# Altium schematic symbol library Resistor_0805.SchLib: 258 symbols (part 3 of 6)
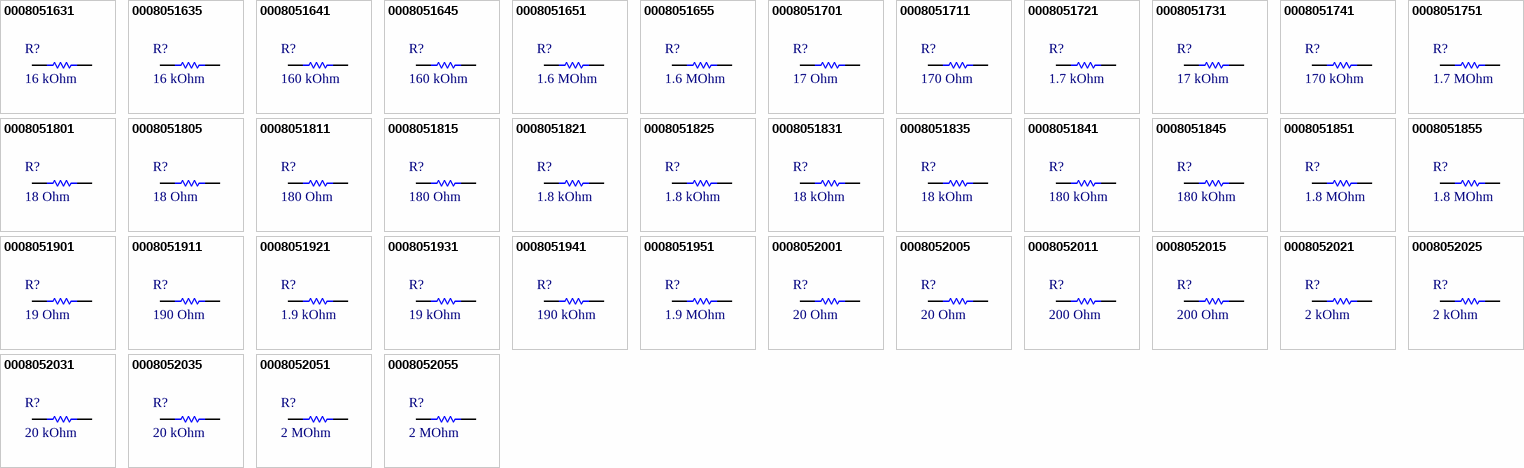
[diagram p8: symbols 0008051631 to 0008052055]

## 0008051721
designator R?, comment 1.7 kOhm
RES, size 0805, 1.7 kOhm, 1/8 W, 1%; Manufacturer: Vishay Dale; Manufacturer Part Number: CRCW08051K74FKEA; Rated Power: 1/8 W; Tolerance: +/-1%; Resistance: 1.7 kOhm; Supplier 1 URL: https://www.mouser.vn/ProductDetail/Vishay-Dale/CRCW08051R74FKEA?qs=VZN8LE6el69bxHRyB8AcJA%3D%3D; Supplier 2 URL: https://www.digikey.com/en/products/detail/vishay-dale/CRCW08051K74FKEA/1175662; Supplier 3 URL: N/A; Value: 1.7 kOhm; Packaging: Tape and Reel; Supplier 1: Mouser; Supplier 1 Part Number: 71-CRCW08051R74FKEA; Supplier 2: Digi-Key; Supplier 2 Part Number: 541-1.74KCTR-ND; Supplier 3: thegioiic; Supplier 3 Part Number: OEM; ComponentLink1Description: Datasheet; ComponentLink1URL: https://www.vishay.com/docs/20035/dcrcwe3.pdf; Mount: SMD/SMT; Operating Temperature Max: + 85 C; Operating Temperature Min: - 40 C; Package / Case: 0805; LCSC Part #: N/A
footprint RES_0805 (Chip Resistor, 2-Leads, Body 2.05x1.25mm, IPC Medium Density)
simulation model R_Resistor_Default (Model Description)
signal-integrity model Resistor Model
pins: 1, 2

## 0008051731
designator R?, comment 17 kOhm
RES, size 0805, 17 kOhm, 1/8 W, 1%; Manufacturer: Vishay Dale; Manufacturer Part Number: CRCW080516K9FKEA; Rated Power: 1/8 W; Tolerance: +/-1%; Resistance: 17 kOhm; Supplier 1 URL: https://www.mouser.vn/ProductDetail/Vishay-Dale/CRCW080516R9FKEA?qs=2mNt4BZ3oPy6ledn75dEfw%3D%3D; Supplier 2 URL: https://www.digikey.com/en/products/detail/vishay-dale/CRCW080516K9FKEA/1175775; Supplier 3 URL: https://www.thegioiic.com/dien-tro-16-9-kohm-0805-1; Value: 17 kOhm; Packaging: Tape and Reel; Supplier 1: Mouser; Supplier 1 Part Number: 71-CRCW080516R9FKEA; Supplier 2: Digi-Key; Supplier 2 Part Number: 541-16.9KCTR-ND; Supplier 3: thegioiic; Supplier 3 Part Number: OEM; ComponentLink1Description: Datasheet; ComponentLink1URL: https://www.vishay.com/docs/20035/dcrcwe3.pdf; Mount: SMD/SMT; Operating Temperature Max: + 85 C; Operating Temperature Min: - 40 C; Package / Case: 0805; LCSC Part #: N/A
footprint RES_0805 (Chip Resistor, 2-Leads, Body 2.05x1.25mm, IPC Medium Density)
simulation model R_Resistor_Default (Model Description)
signal-integrity model Resistor Model
pins: 1, 2

## 0008051741
designator R?, comment 170 kOhm
RES, size 0805, 170 kOhm, 1/8 W, 1%; Manufacturer: Vishay Dale; Manufacturer Part Number: CRCW0805169KFKEA; Rated Power: 1/8 W; Tolerance: +/-1%; Resistance: 170 kOhm; Supplier 1 URL: https://www.mouser.vn/ProductDetail/Vishay-Dale/CRCW0805169KFKEA?qs=2mNt4BZ3oPxAzoQkYaNjxQ%3D%3D; Supplier 2 URL: https://www.digikey.com/en/products/detail/vishay-dale/CRCW0805169KFKEA/1175889; Supplier 3 URL: https://www.vishay.com/docs/20035/dcrcwe3.pdf; Value: 170 kOhm; Packaging: Tape and Reel; Supplier 1: Mouser; Supplier 1 Part Number: 71-CRCW0805169KFKEA; Supplier 2: Digi-Key; Supplier 2 Part Number: 541-169KCTR-ND; Supplier 3: thegioiic; Supplier 3 Part Number: OEM; ComponentLink1Description: Datasheet; ComponentLink1URL: https://www.vishay.com/docs/20035/dcrcwe3.pdf; Mount: SMD/SMT; Operating Temperature Max: + 85 C; Operating Temperature Min: - 40 C; Package / Case: 0805; LCSC Part #: N/A
footprint RES_0805 (Chip Resistor, 2-Leads, Body 2.05x1.25mm, IPC Medium Density)
simulation model R_Resistor_Default (Model Description)
signal-integrity model Resistor Model
pins: 1, 2

## 0008051751
designator R?, comment 1.7 MOhm
RES, size 0805, 1.7 MOhm, 1/8 W, 1%; Manufacturer: Vishay Dale; Manufacturer Part Number: CRCW08051M69FKEA; Rated Power: 1/8 W; Tolerance: +/-1%; Resistance: 1.7 MOhm; Supplier 1 URL: https://www.mouser.vn/ProductDetail/Vishay-Dale/CRCW08051M69FKEA?qs=uQdQW2oKfUWB0BOy%2FF%2FQ%252Bw%3D%3D; Supplier 2 URL: https://www.digikey.com/en/products/detail/vishay-dale/CRCW08051M69FKEA/1176040; Supplier 3 URL: N/A; Value: 1.7 MOhm; Packaging: Tape and Reel; Supplier 1: Mouser; Supplier 1 Part Number: 71-CRCW08051M69FKEA; Supplier 2: Digi-Key; Supplier 2 Part Number: 541-1.69MCTR-ND; Supplier 3: thegioiic; Supplier 3 Part Number: OEM; ComponentLink1Description: Datasheet; ComponentLink1URL: https://www.vishay.com/docs/20035/dcrcwe3.pdf; Mount: SMD/SMT; Operating Temperature Max: + 85 C; Operating Temperature Min: - 40 C; Package / Case: 0805; LCSC Part #: N/A
footprint RES_0805 (Chip Resistor, 2-Leads, Body 2.05x1.25mm, IPC Medium Density)
simulation model R_Resistor_Default (Model Description)
signal-integrity model Resistor Model
pins: 1, 2

## 0008051801
designator R?, comment 18 Ohm
RES, size 0805, 18 Ohm, 1/8 W, 1%; Manufacturer: Vishay Dale; Manufacturer Part Number: CRCW080518R0FKEAC; Rated Power: 1/8 W; Tolerance: +/-1%; Resistance: 18 Ohm; Supplier 1 URL: https://www.mouser.vn/ProductDetail/Vishay-Dale/CRCW080518R0FKEA?qs=DZvKvnD5UYXeNlxVPLgBIg%3D%3D; Supplier 2 URL: https://www.digikey.com/en/products/detail/vishay-dale/CRCW080518R0FKEAC/7922560; Supplier 3 URL: N/A; Value: 18 Ohm; Packaging: Tape and Reel; Supplier 1: Mouser; Supplier 1 Part Number: 71-CRCW080518R0FKEA; Supplier 2: Digi-Key; Supplier 2 Part Number: 541-CRCW080518R0FKEACTR-ND; Supplier 3: thegioiic; Supplier 3 Part Number: OEM; ComponentLink1Description: Datasheet; ComponentLink1URL: https://www.vishay.com/docs/28773/crcwce3.pdf; Mount: SMD/SMT; Operating Temperature Max: + 85 C; Operating Temperature Min: - 40 C; Package / Case: 0805; LCSC Part #: N/A
footprint RES_0805 (Chip Resistor, 2-Leads, Body 2.05x1.25mm, IPC Medium Density)
simulation model R_Resistor_Default (Model Description)
signal-integrity model Resistor Model
pins: 1, 2

## 0008051805
designator R?, comment 18 Ohm
RES, size 0805, 18 Ohm, 1/8 W, 5%; Manufacturer: Vishay Dale; Manufacturer Part Number: CRCW080518R0JNEA; Rated Power: 1/8 W; Tolerance: +/-5%; Resistance: 18 Ohm; Supplier 1 URL: https://www.mouser.vn/ProductDetail/Vishay-Dale/CRCW080518R0JNEA?qs=DZvKvnD5UYVzWW6FXLIdlg%3D%3D; Supplier 2 URL: https://www.digikey.com/en/products/detail/vishay-dale/CRCW080518R0JNEA/1175156; Supplier 3 URL: https://www.thegioiic.com/dien-tro-18-ohm-0805-5-; Value: 18 Ohm; Packaging: Tape and Reel; Supplier 1: Mouser; Supplier 1 Part Number: 71-CRCW080518R0JNEA; Supplier 2: Digi-Key; Supplier 2 Part Number: 541-18ATR-ND; Supplier 3: thegioiic; Supplier 3 Part Number: OEM; ComponentLink1Description: Datasheet; ComponentLink1URL: https://www.vishay.com/docs/20035/dcrcwe3.pdf; Mount: SMD/SMT; Operating Temperature Max: + 85 C; Operating Temperature Min: - 40 C; Package / Case: 0805; LCSC Part #: N/A
footprint RES_0805 (Chip Resistor, 2-Leads, Body 2.05x1.25mm, IPC Medium Density)
simulation model R_Resistor_Default (Model Description)
signal-integrity model Resistor Model
pins: 1, 2

## 0008051811
designator R?, comment 180 Ohm
RES, size 0805, 180 Ohm, 1/8 W, 1%; Manufacturer: Vishay Dale; Manufacturer Part Number: CRCW0805180RFKEA; Rated Power: 1/8 W; Tolerance: +/-1%; Resistance: 180 Ohm; Supplier 1 URL: https://www.mouser.vn/ProductDetail/Vishay-Dale/CRCW0805180RFKEA?qs=2mNt4BZ3oPx3JSoDddPwBg%3D%3D; Supplier 2 URL: https://www.digikey.com/en/products/detail/vishay-dale/CRCW0805180RFKEA/1175550; Supplier 3 URL: https://www.thegioiic.com/dien-tro-180-ohm-0805-1; Value: 180 Ohm; Packaging: Tape and Reel; Supplier 1: Mouser; Supplier 1 Part Number: 71-CRCW0805180RFKEA; Supplier 2: Digi-Key; Supplier 2 Part Number: 541-180CTR-ND; Supplier 3: thegioiic; Supplier 3 Part Number: OEM; ComponentLink1Description: Datasheet; ComponentLink1URL: https://www.vishay.com/docs/20035/dcrcwe3.pdf; Mount: SMD/SMT; Operating Temperature Max: + 85 C; Operating Temperature Min: - 40 C; Package / Case: 0805; LCSC Part #: N/A
footprint RES_0805 (Chip Resistor, 2-Leads, Body 2.05x1.25mm, IPC Medium Density)
simulation model R_Resistor_Default (Model Description)
signal-integrity model Resistor Model
pins: 1, 2

## 0008051815
designator R?, comment 180 Ohm
RES, size 0805, 180 Ohm, 1/8 W, 5%; Manufacturer: Vishay Dale; Manufacturer Part Number: CRCW0805180RJNEA; Rated Power: 1/8 W; Tolerance: +/-5%; Resistance: 180 Ohm; Supplier 1 URL: https://www.mouser.vn/ProductDetail/Vishay-Dale/CRCW0805180RJNEA?qs=2mNt4BZ3oPw5LDq56YqQBw%3D%3D; Supplier 2 URL: https://www.digikey.com/en/products/detail/vishay-dale/CRCW0805180RJNEA/1175180; Supplier 3 URL: https://www.thegioiic.com/dien-tro-180-ohm-0805-5; Value: 180 Ohm; Packaging: Tape and Reel; Supplier 1: Mouser; Supplier 1 Part Number: 71-CRCW0805180RJNEA; Supplier 2: Digi-Key; Supplier 2 Part Number: 541-180ATR-ND; Supplier 3: thegioiic; Supplier 3 Part Number: OEM; ComponentLink1Description: Datasheet; ComponentLink1URL: https://www.vishay.com/docs/20035/dcrcwe3.pdf; Mount: SMD/SMT; Operating Temperature Max: + 85 C; Operating Temperature Min: - 40 C; Package / Case: 0805; LCSC Part #: N/A
footprint RES_0805 (Chip Resistor, 2-Leads, Body 2.05x1.25mm, IPC Medium Density)
simulation model R_Resistor_Default (Model Description)
signal-integrity model Resistor Model
pins: 1, 2

## 0008051821
designator R?, comment 1.8 kOhm
RES, size 0805, 1.8 kOhm, 1/8 W, 1%; Manufacturer: Vishay Dale; Manufacturer Part Number: CRCW08051K80FKEAC; Rated Power: 1/8 W; Tolerance: +/-1%; Resistance: 1.8 kOhm; Supplier 1 URL: https://www.mouser.vn/ProductDetail/Vishay-Dale/CRCW08051K80FKTA?qs=%2FCr5RXwmPBPYh0ghdoWn4A%3D%3D; Supplier 2 URL: https://www.digikey.com/en/products/detail/vishay-dale/CRCW08051K80FKEAC/7922423; Supplier 3 URL: N/A; Value: 1.8 kOhm; Packaging: Tape and Reel; Supplier 1: Mouser; Supplier 1 Part Number: 71-CRCW0805-1.8K; Supplier 2: Digi-Key; Supplier 2 Part Number: 541-CRCW08051K80FKEACTR-ND; Supplier 3: thegioiic; Supplier 3 Part Number: OEM; ComponentLink1Description: Datasheet; ComponentLink1URL: https://www.vishay.com/docs/28773/crcwce3.pdf; Mount: SMD/SMT; Operating Temperature Max: + 85 C; Operating Temperature Min: - 40 C; Package / Case: 0805; LCSC Part #: N/A
footprint RES_0805 (Chip Resistor, 2-Leads, Body 2.05x1.25mm, IPC Medium Density)
simulation model R_Resistor_Default (Model Description)
signal-integrity model Resistor Model
pins: 1, 2

## 0008051825
designator R?, comment 1.8 kOhm
RES, size 0805, 1.8 kOhm, 1/8 W, 5%; Manufacturer: Vishay Dale; Manufacturer Part Number: CRCW08051K80JNEA; Rated Power: 1/8 W; Tolerance: +/-5%; Resistance: 1.8 kOhm; Supplier 1 URL: https://www.mouser.vn/ProductDetail/Vishay-Dale/CRCW08051K80JNEA?qs=1CkV0QOCgMoziGcs0GIg9A%3D%3D; Supplier 2 URL: https://www.digikey.com/en/products/detail/vishay-dale/CRCW08051K80JNEA/1175204; Supplier 3 URL: https://www.thegioiic.com/dien-tro-1-8-kohm-0805-5; Value: 1.8 kOhm; Packaging: Tape and Reel; Supplier 1: Mouser; Supplier 1 Part Number: 71-CRCW08051K80JNEA; Supplier 2: Digi-Key; Supplier 2 Part Number: 541-1.8KATR-ND; Supplier 3: thegioiic; Supplier 3 Part Number: OEM; ComponentLink1Description: Datasheet; ComponentLink1URL: https://www.vishay.com/docs/20035/dcrcwe3.pdf; Mount: SMD/SMT; Operating Temperature Max: + 85 C; Operating Temperature Min: - 40 C; Package / Case: 0805; LCSC Part #: N/A
footprint RES_0805 (Chip Resistor, 2-Leads, Body 2.05x1.25mm, IPC Medium Density)
simulation model R_Resistor_Default (Model Description)
signal-integrity model Resistor Model
pins: 1, 2

## 0008051831
designator R?, comment 18 kOhm
RES, size 0805, 18 kOhm, 1/8 W, 1%; Manufacturer: Vishay Dale; Manufacturer Part Number: CRCW080518K0FKEAC; Rated Power: 1/8 W; Tolerance: +/-1%; Resistance: 18 kOhm; Supplier 1 URL: https://www.mouser.vn/ProductDetail/Vishay-Dale/CRCW080518K0FKTA?qs=y%252BxuShyeZ0NrSEy0dNjJIA%3D%3D; Supplier 2 URL: https://www.digikey.com/en/products/detail/vishay-dale/CRCW080518K0FKEAC/7922446; Supplier 3 URL: N/A; Value: 18 kOhm; Packaging: Tape and Reel; Supplier 1: Mouser; Supplier 1 Part Number: 71-CRCW0805-18K; Supplier 2: Digi-Key; Supplier 2 Part Number: 541-CRCW080518K0FKEACTR-ND; Supplier 3: thegioiic; Supplier 3 Part Number: OEM; ComponentLink1Description: Datasheet; ComponentLink1URL: https://www.vishay.com/docs/28773/crcwce3.pdf; Mount: SMD/SMT; Operating Temperature Max: + 85 C; Operating Temperature Min: - 40 C; Package / Case: 0805; LCSC Part #: N/A
footprint RES_0805 (Chip Resistor, 2-Leads, Body 2.05x1.25mm, IPC Medium Density)
simulation model R_Resistor_Default (Model Description)
signal-integrity model Resistor Model
pins: 1, 2

## 0008051835
designator R?, comment 18 kOhm
RES, size 0805, 18 kOhm, 1/8 W, 5%; Manufacturer: Vishay Dale; Manufacturer Part Number: CRCW080518K0JNEA; Rated Power: 1/8 W; Tolerance: +/-5%; Resistance: 18 kOhm; Supplier 1 URL: https://www.mouser.vn/ProductDetail/Vishay-Dale/CRCW080518K0JNEA?qs=DZvKvnD5UYWL7mO9xPXKNA%3D%3D; Supplier 2 URL: https://www.digikey.com/en/products/detail/vishay-dale/CRCW080518K0JNEA/1175228; Supplier 3 URL: https://www.thegioiic.com/dien-tro-18-kohm-0805-5; Value: 18 kOhm; Packaging: Tape and Reel; Supplier 1: Mouser; Supplier 1 Part Number: 71-CRCW080518K0JNEA; Supplier 2: Digi-Key; Supplier 2 Part Number: 541-18KATR-ND; Supplier 3: thegioiic; Supplier 3 Part Number: OEM; ComponentLink1Description: Datasheet; ComponentLink1URL: https://www.vishay.com/docs/20035/dcrcwe3.pdf; Mount: SMD/SMT; Operating Temperature Max: + 85 C; Operating Temperature Min: - 40 C; Package / Case: 0805; LCSC Part #: N/A
footprint RES_0805 (Chip Resistor, 2-Leads, Body 2.05x1.25mm, IPC Medium Density)
simulation model R_Resistor_Default (Model Description)
signal-integrity model Resistor Model
pins: 1, 2

## 0008051841
designator R?, comment 180 kOhm
RES, size 0805, 180 kOhm, 1/8 W, 1%; Manufacturer: Vishay Dale; Manufacturer Part Number: CRCW0805180KFKEAC; Rated Power: 1/8 W; Tolerance: +/-1%; Resistance: 180 kOhm; Supplier 1 URL: https://www.mouser.vn/ProductDetail/Vishay-Dale/CRCW0805180KFKEA?qs=2mNt4BZ3oPxkEXJ7pFEQ5A%3D%3D; Supplier 2 URL: https://www.digikey.com/en/products/detail/vishay-dale/CRCW0805180KFKEAC/7922559; Supplier 3 URL: https://www.vishay.com/docs/28773/crcwce3.pdf; Value: 180 kOhm; Packaging: Tape and Reel; Supplier 1: Mouser; Supplier 1 Part Number: 71-CRCW0805180KFKEA; Supplier 2: Digi-Key; Supplier 2 Part Number: 541-CRCW0805180KFKEACTR-ND; Supplier 3: thegioiic; Supplier 3 Part Number: OEM; ComponentLink1Description: Datasheet; ComponentLink1URL: https://www.vishay.com/docs/28773/crcwce3.pdf; Mount: SMD/SMT; Operating Temperature Max: + 85 C; Operating Temperature Min: - 40 C; Package / Case: 0805; LCSC Part #: N/A
footprint RES_0805 (Chip Resistor, 2-Leads, Body 2.05x1.25mm, IPC Medium Density)
simulation model R_Resistor_Default (Model Description)
signal-integrity model Resistor Model
pins: 1, 2

## 0008051845
designator R?, comment 180 kOhm
RES, size 0805, 180 kOhm, 1/8 W, 5%; Manufacturer: Vishay Dale; Manufacturer Part Number: CRCW0805180KJNEA; Rated Power: 1/8 W; Tolerance: +/-5%; Resistance: 180 kOhm; Supplier 1 URL: https://www.mouser.vn/c/passive-components/resistors/film-resistors/thick-film-resistors-smd/?case%20code%20-%20in=0805&m=Vishay&power%20rating=125%20mW%20%281%2F8%20W%29&resistance=180%20kOhms&tolerance=5%20%25; Supplier 2 URL: https://www.digikey.com/en/products/detail/vishay-dale/CRCW0805180KJNEA/1175252; Supplier 3 URL: https://www.thegioiic.com/dien-tro-180-kohm-0805-5; Value: 180 kOhm; Packaging: Tape and Reel; Supplier 1: Mouser; Supplier 1 Part Number: 71-CRCW0805180KJNEA; Supplier 2: Digi-Key; Supplier 2 Part Number: 541-180KATR-ND; Supplier 3: thegioiic; Supplier 3 Part Number: OEM; ComponentLink1Description: Datasheet; ComponentLink1URL: https://www.vishay.com/docs/20035/dcrcwe3.pdf; Mount: SMD/SMT; Operating Temperature Max: + 85 C; Operating Temperature Min: - 40 C; Package / Case: 0805; LCSC Part #: N/A
footprint RES_0805 (Chip Resistor, 2-Leads, Body 2.05x1.25mm, IPC Medium Density)
simulation model R_Resistor_Default (Model Description)
signal-integrity model Resistor Model
pins: 1, 2

## 0008051851
designator R?, comment 1.8 MOhm
RES, size 0805, 1.8 MOhm, 1/8 W, 1%; Manufacturer: Vishay Dale; Rated Power: 1/8 W; Tolerance: +/-1%; Supplier 1 URL: https://www.mouser.vn/ProductDetail/Vishay-Dale/CRCW08051M80FKEAC?qs=E3Y5ESvWgWPnWxcGndSAkw%3D%3D; Supplier 2 URL: https://www.digikey.com/en/products/detail/vishay-dale/CRCW08051M80FKEA/1176043; Supplier 3 URL: N/A; Resistance: 1.8 MOhm; Value: 1.8 MOhm; Packaging: Tape and Reel; Supplier 1: Mouser; Supplier 1 Part Number: 71-CRCW08051M80FKEAC; Supplier 2: Digi-Key; Supplier 2 Part Number: 71-CRCW08051M80FKEAC; Supplier 3: thegioiic; Supplier 3 Part Number: OEM; Manufacturer Part Number: N/A; ComponentLink1Description: Datasheet; ComponentLink1URL: N/A; Mount: SMD/SMT; Operating Temperature Max: + 85 C; Operating Temperature Min: - 40 C; Package / Case: 0805; LCSC Part #: N/A
footprint RES_0805 (Chip Resistor, 2-Leads, Body 2.05x1.25mm, IPC Medium Density)
simulation model R_Resistor_Default (Model Description)
signal-integrity model Resistor Model
pins: 1, 2

## 0008051855
designator R?, comment 1.8 MOhm
RES, size 0805, 1.8 MOhm, 1/8 W, 5%; Manufacturer: Vishay Dale; Manufacturer Part Number: CRCW08051M80JNEA; Rated Power: 1/8 W; Tolerance: +/-5%; Supplier 1 URL: https://www.mouser.vn/ProductDetail/Vishay-Dale/CRCW08051M80JNEA?qs=1CkV0QOCgMorN9CsUzm1mw%3D%3D; Supplier 2 URL: https://www.digikey.com/en/products/detail/vishay-dale/CRCW08051M80JNEA/1175276; Supplier 3 URL: https://www.thegioiic.com/dien-tro-1-8-mohm-0805-5; Resistance: 1.8 MOhm; Value: 1.8 MOhm; Packaging: Tape and Reel; Supplier 1: Mouser; Supplier 1 Part Number: 71-CRCW08051M80JNEA; Supplier 2: Digi-Key; Supplier 2 Part Number: 541-1.8MATR-ND; Supplier 3: thegioiic; Supplier 3 Part Number: OEM; ComponentLink1Description: Datasheet; ComponentLink1URL: https://www.vishay.com/docs/20035/dcrcwe3.pdf; Mount: SMD/SMT; Operating Temperature Max: + 85 C; Operating Temperature Min: - 40 C; Package / Case: 0805; LCSC Part #: N/A
footprint RES_0805 (Chip Resistor, 2-Leads, Body 2.05x1.25mm, IPC Medium Density)
simulation model R_Resistor_Default (Model Description)
signal-integrity model Resistor Model
pins: 1, 2

## 0008051901
designator R?, comment 19 Ohm
RES, size 0805, 19 Ohm, 1/8 W, 1%; Manufacturer: Vishay Dale; Manufacturer Part Number: CRCW080519R1FKEA; Rated Power: 1/8 W; Tolerance: +/-1%; Resistance: 19 Ohm; Supplier 1 URL: https://www.mouser.vn/ProductDetail/Vishay-Dale/CRCW080519R1FKEA?qs=DZvKvnD5UYXfdXVlAdbS3g%3D%3D; Supplier 2 URL: https://www.digikey.com/en/products/detail/vishay-dale/CRCW080519R1FKEA/1175439; Supplier 3 URL: N/A; Value: 19 Ohm; Packaging: Tape and Reel; Supplier 1: Mouser; Supplier 1 Part Number: 71-CRCW080519R1FKEA; Supplier 2: Digi-Key; Supplier 2 Part Number: 541-19.1CTR-ND; Supplier 3: thegioiic; Supplier 3 Part Number: OEM; ComponentLink1Description: Datasheet; ComponentLink1URL: https://www.vishay.com/docs/20035/dcrcwe3.pdf; Mount: SMD/SMT; Operating Temperature Max: + 85 C; Operating Temperature Min: - 40 C; Package / Case: 0805; LCSC Part #: N/A
footprint RES_0805 (Chip Resistor, 2-Leads, Body 2.05x1.25mm, IPC Medium Density)
simulation model R_Resistor_Default (Model Description)
signal-integrity model Resistor Model
pins: 1, 2

## 0008051911
designator R?, comment 190 Ohm
RES, size 0805, 190 Ohm, 1/8 W, 1%; Manufacturer: Vishay Dale; Manufacturer Part Number: CRCW0805191RFKEA; Rated Power: 1/8 W; Tolerance: +/-1%; Resistance: 190 Ohm; Supplier 1 URL: https://www.mouser.vn/ProductDetail/Vishay-Dale/CRCW0805191RFKEA?qs=DZvKvnD5UYVwpMLdTR87ZQ%3D%3D; Supplier 2 URL: https://www.digikey.com/en/products/detail/vishay-dale/CRCW0805191RFKEA/1175553; Supplier 3 URL: N/A; Value: 190 Ohm; Packaging: Tape and Reel; Supplier 1: Mouser; Supplier 1 Part Number: 71-CRCW0805191RFKEA; Supplier 2: Digi-Key; Supplier 2 Part Number: 541-191CTR-ND; Supplier 3: thegioiic; Supplier 3 Part Number: OEM; ComponentLink1Description: Datasheet; ComponentLink1URL: https://www.vishay.com/docs/20035/dcrcwe3.pdf; Mount: SMD/SMT; Operating Temperature Max: + 85 C; Operating Temperature Min: - 40 C; Package / Case: 0805; LCSC Part #: N/A
footprint RES_0805 (Chip Resistor, 2-Leads, Body 2.05x1.25mm, IPC Medium Density)
simulation model R_Resistor_Default (Model Description)
signal-integrity model Resistor Model
pins: 1, 2

## 0008051921
designator R?, comment 1.9 kOhm
RES, size 0805, 1.9 kOhm, 1/8 W, 1%; Manufacturer: Vishay Dale; Manufacturer Part Number: CRCW08051K91FKEA; Rated Power: 1/8 W; Tolerance: +/-1%; Resistance: 1.9 kOhm; Supplier 1 URL: https://www.mouser.vn/ProductDetail/Vishay-Dale/CRCW08051K91FKEAC?qs=E3Y5ESvWgWNbW88wEVrLPg%3D%3D; Supplier 2 URL: https://www.digikey.com/en/products/detail/vishay-dale/CRCW08051K91FKEA/1175667; Supplier 3 URL: N/A; Value: 1.9 kOhm; Packaging: Tape and Reel; Supplier 1: Mouser; Supplier 1 Part Number: 71-CRCW08051K91FKEAC; Supplier 2: Digi-Key; Supplier 2 Part Number: 541-1.91KCTR-ND; Supplier 3: thegioiic; Supplier 3 Part Number: OEM; ComponentLink1Description: Datasheet; ComponentLink1URL: https://www.vishay.com/docs/20035/dcrcwe3.pdf; Mount: SMD/SMT; Operating Temperature Max: + 85 C; Operating Temperature Min: - 40 C; Package / Case: 0805; LCSC Part #: N/A
footprint RES_0805 (Chip Resistor, 2-Leads, Body 2.05x1.25mm, IPC Medium Density)
simulation model R_Resistor_Default (Model Description)
signal-integrity model Resistor Model
pins: 1, 2

## 0008051931
designator R?, comment 19 kOhm
RES, size 0805, 19 kOhm, 1/8 W, 1%; Manufacturer: Vishay Dale; Manufacturer Part Number: CRCW080519K0FKTA; Rated Power: 1/8 W; Tolerance: +/-1%; Resistance: 19 kOhm; Supplier 1 URL: https://www.mouser.vn/c/passive-components/resistors/film-resistors/thick-film-resistors-smd/?case%20code%20-%20in=0805&case%20code%20-%20mm=2012&m=Vishay&power%20rating=125%20mW%20%281%2F8%20W%29&resistance=19.1%20kOhms&termination%20style=SMD%2FSMT&tolerance=1%20%25; Supplier 2 URL: https://www.digikey.com/en/products/detail/vishay-dale/CRCW080519K0FKTA/5074036?s=N4IgjCBcoExaBjKAzAhgGwM4FMA0IB7KAbXAAYAOAdgE4QBdfABwBcoQBlFgJwEsA7AOYgAvvgDM8EEkhoseQiXBhxERiFbsufIaPxgYNCNGkoMOfEUilxNcTAoNmbSJx4DhYkDEoBWKTJyForW4DQABADWAPIAFgC2mE4aLiAAqvy8LNHIALLYqJgArtzYeiAAtMaIZvKWSr4ALGoirUA; Supplier 3 URL: N/A; Value: 19 kOhm; Packaging: Tape and Reel; Supplier 1: Mouser; Supplier 1 Part Number: 71-CRCW0805-19.1K; Supplier 2: Digi-Key; Supplier 2 Part Number: CRCW080519K0FKTA-ND; Supplier 3: thegioiic; Supplier 3 Part Number: OEM; ComponentLink1Description: Datasheet; ComponentLink1URL: https://www.vishay.com/docs/20008/dcrcw.pdf; Mount: SMD/SMT; Operating Temperature Max: + 85 C; Operating Temperature Min: - 40 C; Package / Case: 0805; LCSC Part #: N/A
footprint RES_0805 (Chip Resistor, 2-Leads, Body 2.05x1.25mm, IPC Medium Density)
simulation model R_Resistor_Default (Model Description)
signal-integrity model Resistor Model
pins: 1, 2

## 0008051941
designator R?, comment 190 kOhm
RES, size 0805, 190 kOhm, 1/8 W, 1%; Manufacturer: Vishay Dale; Manufacturer Part Number: CRCW0805191KFKEAC; Rated Power: 1/8 W; Tolerance: +/-1%; Resistance: 190 kOhm; Supplier 1 URL: https://www.mouser.vn/ProductDetail/Vishay-Dale/CRCW0805191KFKEAC?qs=wd5RIQLrsJiMbMBlRMtkHQ%3D%3D; Supplier 2 URL: https://www.digikey.com/en/products/detail/vishay-dale/CRCW0805191KFKEAC/7922825; Supplier 3 URL: https://www.mouser.vn/ProductDetail/Vishay-Dale/CRCW0805191KFKEAC?qs=wd5RIQLrsJiMbMBlRMtkHQ%3D%3D; Value: 190 kOhm; Packaging: Tape and Reel; Supplier 1: Mouser; Supplier 1 Part Number: 71-CRCW0805191KFKEAC; Supplier 2: Digi-Key; Supplier 2 Part Number: 541-CRCW0805191KFKEACTR-ND; Supplier 3: thegioiic; Supplier 3 Part Number: OEM; ComponentLink1Description: Datasheet; ComponentLink1URL: https://www.vishay.com/docs/28773/crcwce3.pdf; Mount: SMD/SMT; Operating Temperature Max: + 85 C; Operating Temperature Min: - 40 C; Package / Case: 0805; LCSC Part #: N/A
footprint RES_0805 (Chip Resistor, 2-Leads, Body 2.05x1.25mm, IPC Medium Density)
simulation model R_Resistor_Default (Model Description)
signal-integrity model Resistor Model
pins: 1, 2

## 0008051951
designator R?, comment 1.9 MOhm
RES, size 0805, 1.9 MOhm, 1/8 W, 1%; Manufacturer: Vishay Dale; Manufacturer Part Number: CRCW08051M91FKEAC; Rated Power: 1/8 W; Tolerance: +/-1%; Resistance: 1.9 MOhm; Supplier 1 URL: https://www.mouser.vn/ProductDetail/Vishay-Dale/CRCW08051M91FKEA?qs=4T2aWUY5LRN4KaJWeIV0TQ%3D%3D; Supplier 2 URL: https://www.digikey.com/en/products/detail/vishay-dale/CRCW08051M91FKEAC/7923108; Supplier 3 URL: N/A; Value: 1.9 MOhm; Packaging: Tape and Reel; Supplier 1: Mouser; Supplier 1 Part Number: 71-CRCW08051M91FKEA; Supplier 2: Digi-Key; Supplier 2 Part Number: CRCW08051M91FKEAC-ND; Supplier 3: thegioiic; Supplier 3 Part Number: OEM; ComponentLink1Description: Datasheet; ComponentLink1URL: https://www.vishay.com/docs/28773/crcwce3.pdf; Mount: SMD/SMT; Operating Temperature Max: + 85 C; Operating Temperature Min: - 40 C; Package / Case: 0805; LCSC Part #: N/A
footprint RES_0805 (Chip Resistor, 2-Leads, Body 2.05x1.25mm, IPC Medium Density)
simulation model R_Resistor_Default (Model Description)
signal-integrity model Resistor Model
pins: 1, 2

## 0008052001
designator R?, comment 20 Ohm
RES, size 0805, 20 Ohm, 1/8 W, 1%; Manufacturer: Vishay Dale; Manufacturer Part Number: CRCW080520R0FKEA; Rated Power: 1/8 W; Tolerance: +/-1%; Resistance: 20 Ohm; Supplier 1 URL: https://www.mouser.vn/ProductDetail/Vishay-Dale/CRCW080520R0FKEBC?qs=wd5RIQLrsJh%2FR92AkXDUUQ%3D%3D; Supplier 2 URL: https://www.digikey.com/en/products/detail/vishay-dale/CRCW080520R0FKEA/1175441; Supplier 3 URL: N/A; Value: 20 Ohm; Packaging: Tape and Reel; Supplier 1: Mouser; Supplier 1 Part Number: 71-CRCW080520R0FKEBC; Supplier 2: Digi-Key; Supplier 2 Part Number: 541-20.0CTR-ND; Supplier 3: thegioiic; Supplier 3 Part Number: OEM; ComponentLink1Description: Datasheet; ComponentLink1URL: https://www.vishay.com/docs/20035/dcrcwe3.pdf; Mount: SMD/SMT; Operating Temperature Max: + 85 C; Operating Temperature Min: - 40 C; Package / Case: 0805; LCSC Part #: N/A
footprint RES_0805 (Chip Resistor, 2-Leads, Body 2.05x1.25mm, IPC Medium Density)
simulation model R_Resistor_Default (Model Description)
signal-integrity model Resistor Model
pins: 1, 2

## 0008052005
designator R?, comment 20 Ohm
RES, size 0805, 20 Ohm, 1/8 W, 5%; Manufacturer: Vishay Dale; Manufacturer Part Number: CRCW080520R0JNEAC; Rated Power: 1/8 W; Tolerance: +/-5%; Resistance: 20 Ohm; Supplier 1 URL: https://www.mouser.vn/ProductDetail/Vishay-Dale/CRCW080520R0FKEBC?qs=wd5RIQLrsJh%2FR92AkXDUUQ%3D%3D; Supplier 2 URL: https://www.mouser.vn/ProductDetail/Vishay-Dale/CRCW080520R0JNEA?qs=t6Mf8e9K%2FulaBeAax0Rq9A%3D%3D; Supplier 3 URL: https://www.thegioiic.com/dien-tro-20-ohm-0805-5-; Value: 20 Ohm; Packaging: Tape and Reel; Supplier 1: Mouser; Supplier 1 Part Number: 71-CRCW080520R0JNEA; Supplier 2: Digi-Key; Supplier 2 Part Number: 541-CRCW080520R0JNEACTR-ND; Supplier 3: thegioiic; Supplier 3 Part Number: OEM; ComponentLink1Description: Datasheet; ComponentLink1URL: https://www.vishay.com/docs/28773/crcwce3.pdf; Mount: SMD/SMT; Operating Temperature Max: + 85 C; Operating Temperature Min: - 40 C; Package / Case: 0805; LCSC Part #: N/A
footprint RES_0805 (Chip Resistor, 2-Leads, Body 2.05x1.25mm, IPC Medium Density)
simulation model R_Resistor_Default (Model Description)
signal-integrity model Resistor Model
pins: 1, 2

## 0008052011
designator R?, comment 200 Ohm
RES, size 0805, 200 Ohm, 1/8 W, 1%; Manufacturer: Vishay Dale; Manufacturer Part Number: CRCW0805200RFKEAC; Rated Power: 1/8 W; Tolerance: +/-1%; Resistance: 200 Ohm; Supplier 1 URL: https://www.mouser.vn/ProductDetail/Vishay-Dale/CRCW0805200RFKEBC?qs=wd5RIQLrsJjaNQUh4mW%252B3A%3D%3D; Supplier 2 URL: https://www.digikey.com/en/products/detail/vishay-dale/CRCW0805200RFKEAC/7928568; Supplier 3 URL: N/A; Value: 200 Ohm; Packaging: Tape and Reel; Supplier 1: Mouser; Supplier 1 Part Number: 71-CRCW0805200RFKEBC; Supplier 2: Digi-Key; Supplier 2 Part Number: 541-4146-2-ND; Supplier 3: thegioiic; Supplier 3 Part Number: OEM; ComponentLink1Description: Datasheet; ComponentLink1URL: https://www.vishay.com/docs/28773/crcwce3.pdf; Mount: SMD/SMT; Operating Temperature Max: + 85 C; Operating Temperature Min: - 40 C; Package / Case: 0805; LCSC Part #: N/A
footprint RES_0805 (Chip Resistor, 2-Leads, Body 2.05x1.25mm, IPC Medium Density)
simulation model R_Resistor_Default (Model Description)
signal-integrity model Resistor Model
pins: 1, 2

## 0008052015
designator R?, comment 200 Ohm
RES, size 0805, 200 Ohm, 1/8 W, 5%; Manufacturer: Vishay Dale; Manufacturer Part Number: CRCW0805200RJNEA; Rated Power: 1/8 W; Tolerance: +/-5%; Resistance: 200 Ohm; Supplier 1 URL: https://www.mouser.vn/ProductDetail/Vishay-Dale/CRCW0805200RJNEB?qs=t6Mf8e9K%2Fuk2QHyNFfSEGg%3D%3D; Supplier 2 URL: https://www.digikey.com/en/products/detail/vishay-dale/CRCW0805200RJNEA/1175181; Supplier 3 URL: https://www.thegioiic.com/dien-tro-200-ohm-0805-5; Value: 200 Ohm; Packaging: Tape and Reel; Supplier 1: Mouser; Supplier 1 Part Number: 71-CRCW0805200RJNEB; Supplier 2: Digi-Key; Supplier 2 Part Number: 541-200ATR-ND; Supplier 3: thegioiic; Supplier 3 Part Number: OEM; ComponentLink1Description: Datasheet; ComponentLink1URL: https://www.vishay.com/docs/20035/dcrcwe3.pdf; Mount: SMD/SMT; Operating Temperature Max: + 85 C; Operating Temperature Min: - 40 C; Package / Case: 0805; LCSC Part #: N/A
footprint RES_0805 (Chip Resistor, 2-Leads, Body 2.05x1.25mm, IPC Medium Density)
simulation model R_Resistor_Default (Model Description)
signal-integrity model Resistor Model
pins: 1, 2

## 0008052021
designator R?, comment 2 kOhm
RES, size 0805, 2 kOhm, 1/8 W, 1%; Manufacturer: Vishay Dale; Manufacturer Part Number: CRCW08052K00FKEBC; Rated Power: 1/8 W; Tolerance: +/-1%; Resistance: 2 kOhm; Supplier 1 URL: https://www.mouser.vn/ProductDetail/Vishay-Dale/CRCW08052K00FKEBC?qs=wd5RIQLrsJimvZ2z7rs9jQ%3D%3D; Supplier 2 URL: https://www.digikey.com/en/products/detail/vishay-dale/CRCW08052K00FKEBC/7923203; Supplier 3 URL: N/A; Value: 2 kOhm; Packaging: Tape and Reel; Supplier 1: Mouser; Supplier 1 Part Number: 71-CRCW08052K00FKEBC; Supplier 2: Digi-Key; Supplier 2 Part Number: 541-CRCW08052K00FKEBCTR-ND; Supplier 3: thegioiic; Supplier 3 Part Number: OEM; ComponentLink1Description: Datasheet; ComponentLink1URL: https://www.vishay.com/docs/28773/crcwce3.pdf; Mount: SMD/SMT; Operating Temperature Max: + 85 C; Operating Temperature Min: - 40 C; Package / Case: 0805; LCSC Part #: N/A
footprint RES_0805 (Chip Resistor, 2-Leads, Body 2.05x1.25mm, IPC Medium Density)
simulation model R_Resistor_Default (Model Description)
signal-integrity model Resistor Model
pins: 1, 2

## 0008052025
designator R?, comment 2 kOhm
RES, size 0805, 2 kOhm, 1/8 W, 5%; Manufacturer: Vishay Dale; Manufacturer Part Number: CRCW08052K00JNEA; Rated Power: 1/8 W; Tolerance: +/-5%; Resistance: 2 kOhm; Supplier 1 URL: https://www.mouser.vn/ProductDetail/Vishay-Dale/CRCW08052K00JNEA?qs=SM0pg8AlB3peKJz4hE%252BhDA%3D%3D; Supplier 2 URL: https://www.digikey.com/en/products/detail/vishay-dale/CRCW08052K00JNEA/1175205; Supplier 3 URL: https://www.thegioiic.com/dien-tro-2-kohm-0805-5; Value: 2 kOhm; Packaging: Tape and Reel; Supplier 1: Mouser; Supplier 1 Part Number: 71-CRCW08052K00JNEA; Supplier 2: Digi-Key; Supplier 2 Part Number: 541-2.0KATR-ND; Supplier 3: thegioiic; Supplier 3 Part Number: OEM; ComponentLink1Description: Datasheet; ComponentLink1URL: https://www.vishay.com/docs/20035/dcrcwe3.pdf; Mount: SMD/SMT; Operating Temperature Max: + 85 C; Operating Temperature Min: - 40 C; Package / Case: 0805; LCSC Part #: N/A
footprint RES_0805 (Chip Resistor, 2-Leads, Body 2.05x1.25mm, IPC Medium Density)
simulation model R_Resistor_Default (Model Description)
signal-integrity model Resistor Model
pins: 1, 2

## 0008052031
designator R?, comment 20 kOhm
RES, size 0805, 20 kOhm, 1/8 W, 1%; Manufacturer: Vishay Dale; Manufacturer Part Number: CRCW080520K0FKEAC; Rated Power: 1/8 W; Tolerance: +/-1%; Resistance: 20 kOhm; Supplier 1 URL: https://www.mouser.vn/ProductDetail/Vishay-Dale/CRCW080520K0FKTA?qs=18bRiP0yrODnUEny%2FmPwqA%3D%3D; Supplier 2 URL: https://www.digikey.com/en/products/detail/vishay-dale/CRCW080520K0FKEAC/7928555; Supplier 3 URL: https://www.thegioiic.com/dien-tro-20-kohm-0805-1; Value: 20 kOhm; Packaging: Tape and Reel; Supplier 1: Mouser; Supplier 1 Part Number: 71-CRCW0805-20K; Supplier 2: Digi-Key; Supplier 2 Part Number: 541-4133-2-ND; Supplier 3: thegioiic; Supplier 3 Part Number: OEM; ComponentLink1Description: Datasheet; ComponentLink1URL: https://www.vishay.com/docs/28773/crcwce3.pdf; Mount: SMD/SMT; Operating Temperature Max: + 85 C; Operating Temperature Min: - 40 C; Package / Case: 0805; LCSC Part #: N/A
footprint RES_0805 (Chip Resistor, 2-Leads, Body 2.05x1.25mm, IPC Medium Density)
simulation model R_Resistor_Default (Model Description)
signal-integrity model Resistor Model
pins: 1, 2

## 0008052035
designator R?, comment 20 kOhm
RES, size 0805, 20 kOhm, 1/8 W, 5%; Manufacturer: Panasonic; Manufacturer Part Number: ERJ-U06J203V; Rated Power: 1/8 W; Tolerance: +/-5%; Resistance: 20 kOhm; Supplier 1 URL: https://www.mouser.vn/ProductDetail/Panasonic/ERJ-U06J203V?qs=Yyy8avaXlIv0b2cRsnbjDw%3D%3D; Supplier 2 URL: https://www.digikey.com/en/products/detail/panasonic-electronic-components/ERJ-6GEYJ203V/83076; Supplier 3 URL: https://www.thegioiic.com/dien-tro-20-kohm-0805-5-; Value: 20 kOhm; Packaging: Tape and Reel; Supplier 1: Mouser; Supplier 1 Part Number: 667-ERJ-U06J203V; Supplier 2: Digi-Key; Supplier 2 Part Number: P20KATR-ND - Tape & Reel (TR); Supplier 3: thegioiic; Supplier 3 Part Number: OEM; ComponentLink1Description: Datasheet; ComponentLink1URL: https://www.mouser.vn/datasheet/2/315/AOA0000C334-1314047.pdf; Mount: SMD/SMT; Operating Temperature Max: + 85 C; Operating Temperature Min: - 40 C; Package / Case: 0805; LCSC Part #: N/A
footprint RES_0805 (Chip Resistor, 2-Leads, Body 2.05x1.25mm, IPC Medium Density)
simulation model R_Resistor_Default (Model Description)
signal-integrity model Resistor Model
pins: 1, 2

## 0008052051
designator R?, comment 2 MOhm
RES, size 0805, 2 MOhm, 1/8 W, 1%; Manufacturer: Panasonic; Manufacturer Part Number: ERJ-6ENF2004V; Rated Power: 1/8 W; Tolerance: +/-1%; Resistance: 2 MOhm; Supplier 1 URL: https://www.mouser.vn/ProductDetail/Panasonic/ERJ-6ENF2004V?qs=50QC8w71jAsSP8AJKmX4kA%3D%3D; Supplier 2 URL: N/A; Supplier 3 URL: N/A; Value: 2 MOhm; Packaging: Tape and Reel; Supplier 1: Mouser; Supplier 1 Part Number: 667-ERJ-6ENF2004V; Supplier 2: Digi-Key; Supplier 2 Part Number: N/A; Supplier 3: thegioiic; Supplier 3 Part Number: OEM; ComponentLink1Description: Datasheet; ComponentLink1URL: https://www.mouser.vn/datasheet/2/315/AOA0000C304-1149620.pdf; Mount: SMD/SMT; Operating Temperature Max: + 85 C; Operating Temperature Min: - 40 C; Package / Case: 0805; LCSC Part #: N/A
footprint RES_0805 (Chip Resistor, 2-Leads, Body 2.05x1.25mm, IPC Medium Density)
simulation model R_Resistor_Default (Model Description)
signal-integrity model Resistor Model
pins: 1, 2

## 0008052055
designator R?, comment 2 MOhm
RES, size 0805, 2 MOhm, 1/8 W, 5%; Manufacturer: Panasonic; Manufacturer Part Number: ERJ-6GEYJ205V; Rated Power: 1/8 W; Tolerance: +/-5%; Resistance: 2 MOhm; Supplier 1 URL: https://www.mouser.vn/ProductDetail/Panasonic/ERJ-6GEYJ205V?qs=8%252BG0TiN%2FgVosrBfWIhyhKw%3D%3D; Supplier 2 URL: https://www.digikey.com/en/products/detail/panasonic-electronic-components/ERJ-U06J205V/11631387; Supplier 3 URL: N/A; Value: 2 MOhm; Packaging: Tape and Reel; Supplier 1: Mouser; Supplier 1 Part Number: 667-ERJ-6GEYJ205V; Supplier 2: Digi-Key; Supplier 2 Part Number: 10-ERJ-U06J205VTR-ND - Tape & Reel (TR); Supplier 3: thegioiic; Supplier 3 Part Number: OEM; ComponentLink1Description: Datasheet; ComponentLink1URL: https://www.mouser.vn/datasheet/2/315/AOA0000C301-1488782.pdf; Mount: SMD/SMT; Operating Temperature Max: + 85 C; Operating Temperature Min: - 40 C; Package / Case: 0805; LCSC Part #: N/A
footprint RES_0805 (Chip Resistor, 2-Leads, Body 2.05x1.25mm, IPC Medium Density)
simulation model R_Resistor_Default (Model Description)
signal-integrity model Resistor Model
pins: 1, 2

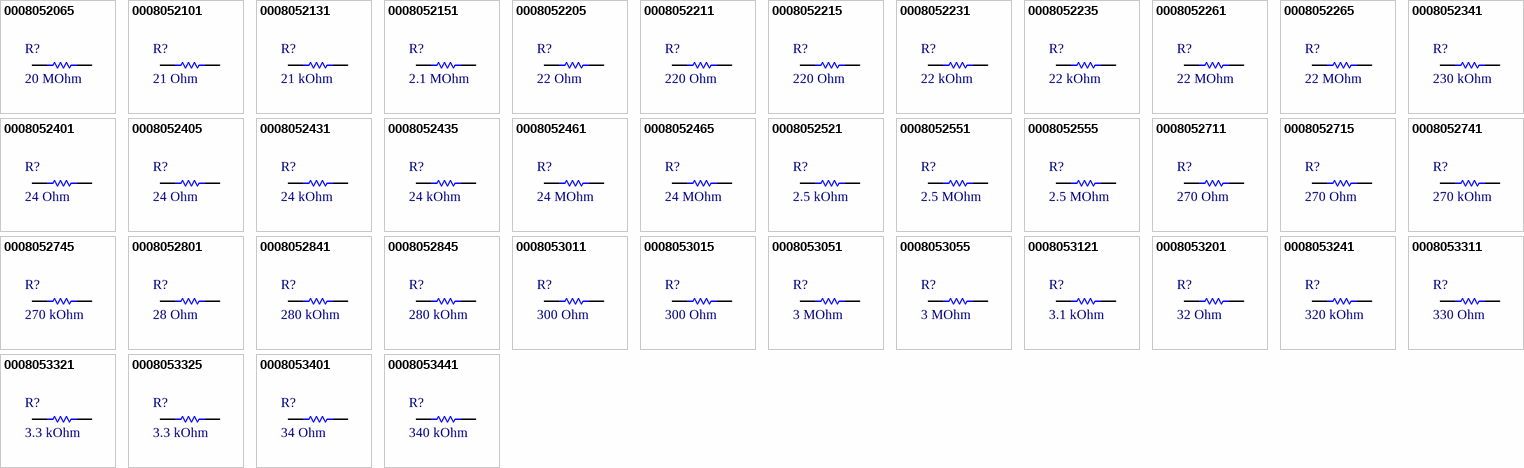
[diagram p3: symbols 0008052065 to 0008053441]

## 0008052065
designator R?, comment 20 MOhm
RES, size 0805, 20 MOhm, 1/8 W, 5%; Manufacturer: YAGEO; Manufacturer Part Number: RC0805JR-0720ML; Rated Power: 1/8 W; Tolerance: +/-5%; Resistance: 20 MOhm; Supplier 1 URL: https://www.mouser.vn/ProductDetail/YAGEO/RC0805JR-0720ML?qs=FsveJYYILCKsJCsPRaOT6g%3D%3D; Supplier 2 URL: https://www.digikey.com/en/products/detail/yageo/RC0805JR-0720ML/5919059; Supplier 3 URL: N/A; Value: 20 MOhm; Packaging: Tape and Reel; Supplier 1: Mouser; Supplier 1 Part Number: 13-RC0805JR-0720MLTR-ND - Tape & Reel (TR); Supplier 2: Digi-Key; Supplier 2 Part Number: P2.1BTTR-ND - Tape & Reel (TR); Supplier 3: thegioiic; Supplier 3 Part Number: OEM; ComponentLink1Description: Datasheet; ComponentLink1URL: https://www.mouser.vn/datasheet/2/447/PYu_RC_Group_51_RoHS_L_11-1984063.pdf; Mount: SMD/SMT; Operating Temperature Max: + 85 C; Operating Temperature Min: - 40 C; Package / Case: 0805; LCSC Part #: N/A
footprint RES_0805 (Chip Resistor, 2-Leads, Body 2.05x1.25mm, IPC Medium Density)
simulation model R_Resistor_Default (Model Description)
signal-integrity model Resistor Model
pins: 1, 2

## 0008052101
designator R?, comment 21 Ohm
RES, size 0805, 21 Ohm, 1/8 W, 1%; Manufacturer: Vishay / Dale; Manufacturer Part Number: CRCW080521R0FKEA; Rated Power: 1/8 W; Tolerance: +/-1%; Resistance: 21 Ohm; Supplier 1 URL: https://www.mouser.vn/ProductDetail/Vishay-Dale/CRCW080521R0FKEA?qs=t6Mf8e9K%2Fuko8IyNc8Xfag%3D%3D; Supplier 2 URL: N/A; Supplier 3 URL: N/A; Value: 21 Ohm; Packaging: Tape and Reel; Supplier 1: Mouser; Supplier 1 Part Number: 71-CRCW080521R0FKEA; Supplier 2: Digi-Key; Supplier 2 Part Number: N/A; Supplier 3: thegioiic; Supplier 3 Part Number: OEM; ComponentLink1Description: Datasheet; ComponentLink1URL: https://www.vishay.com/doc?20035; Mount: SMD/SMT; Operating Temperature Max: + 85 C; Operating Temperature Min: - 40 C; Package / Case: 0805; LCSC Part #: N/A
footprint RES_0805 (Chip Resistor, 2-Leads, Body 2.05x1.25mm, IPC Medium Density)
simulation model R_Resistor_Default (Model Description)
signal-integrity model Resistor Model
pins: 1, 2

## 0008052131
designator R?, comment 21 kOhm
RES, size 0805, 21 kOhm, 1/8 W, 1%; Manufacturer: Bourns; Manufacturer Part Number: CR0805-FX-2102ELF; Rated Power: 1/8 W; Tolerance: +/-1%; Resistance: 21 kOhm; Supplier 1 URL: https://www.mouser.vn/ProductDetail/Bourns/CR0805-FX-2102ELF?qs=Woncl1%2FcWdgAGNTXVWqgGA%3D%3D; Supplier 2 URL: https://www.digikey.com/en/products/detail/yageo/RC0805FR-0721KL/727728; Supplier 3 URL: N/A; Value: 21 kOhm; Packaging: Tape and Reel; Supplier 1: Mouser; Supplier 1 Part Number: 652-CR0805FX-2102ELF; Supplier 2: Digi-Key; Supplier 2 Part Number: 311-21.0KCRTR-ND - Tape & Reel (TR); Supplier 3: thegioiic; Supplier 3 Part Number: OEM; ComponentLink1Description: Datasheet; ComponentLink1URL: https://www.mouser.vn/datasheet/2/54/cr-1858361.pdf; Mount: SMD/SMT; Operating Temperature Max: + 85 C; Operating Temperature Min: - 40 C; Package / Case: 0805; LCSC Part #: N/A
footprint RES_0805 (Chip Resistor, 2-Leads, Body 2.05x1.25mm, IPC Medium Density)
simulation model R_Resistor_Default (Model Description)
signal-integrity model Resistor Model
pins: 1, 2

## 0008052151
designator R?, comment 2.1 MOhm
RES, size 0805, 2.1 MOhm, 1/8 W, 1%; Manufacturer: Vishay / Dale; Manufacturer Part Number: CRCW08052M10FKEA; Rated Power: 1/8 W; Tolerance: +/-1%; Resistance: 2.1 MOhm; Supplier 1 URL: https://www.mouser.vn/ProductDetail/Vishay-Dale/CRCW08052M10FKEA?qs=AxGrLaB7GFLQOtpwLfDPFg%3D%3D; Supplier 2 URL: https://www.digikey.com/en/products/detail/panasonic-electronic-components/ERJ-6ENF2104V/4429124; Supplier 3 URL: N/A; Value: 2.1 MOhm; Packaging: Tape and Reel; Supplier 1: Mouser; Supplier 1 Part Number: 71-CRCW08052M10FKEA; Supplier 2: Digi-Key; Supplier 2 Part Number: P2.1BTTR-ND - Tape & Reel (TR); Supplier 3: thegioiic; Supplier 3 Part Number: OEM; ComponentLink1Description: Datasheet; ComponentLink1URL: https://www.vishay.com/doc?20035; Mount: SMD/SMT; Operating Temperature Max: + 85 C; Operating Temperature Min: - 40 C; Package / Case: 0805; LCSC Part #: N/A
footprint RES_0805 (Chip Resistor, 2-Leads, Body 2.05x1.25mm, IPC Medium Density)
simulation model R_Resistor_Default (Model Description)
signal-integrity model Resistor Model
pins: 1, 2

## 0008052205
designator R?, comment 22 Ohm
RES, size 0805, 22 Ohm, 1/8 W, 5%; Manufacturer: Bourns; Manufacturer Part Number: CR0805-JW-200ELF; Rated Power: 1/8 W; Tolerance: +/-5%; Resistance: 22 Ohm; Supplier 1 URL: https://www.mouser.vn/ProductDetail/Bourns/CR0805-JW-200ELF?qs=wL7NMIHXUPkPRFW4oSYkFg%3D%3D; Supplier 2 URL: https://www.digikey.com/en/products/detail/bourns-inc/CHP0805-JW-200ELF/9598606; Supplier 3 URL: https://www.thegioiic.com/dien-tro-20-ohm-0805-5-; Value: 22 Ohm; Packaging: Tape and Reel; Supplier 1: Mouser; Supplier 1 Part Number: 652-CR0805JW-200ELF; Supplier 2: Digi-Key; Supplier 2 Part Number: CHP0805-JW-200ELFTR-ND - Tape & Reel (TR); Supplier 3: thegioiic; Supplier 3 Part Number: OEM; ComponentLink1Description: Datasheet; ComponentLink1URL: https://www.mouser.vn/datasheet/2/54/cr-1858361.pdf; Mount: SMD/SMT; Operating Temperature Max: + 85 C; Operating Temperature Min: - 40 C; Package / Case: 0805; LCSC Part #: N/A
footprint RES_0805 (Chip Resistor, 2-Leads, Body 2.05x1.25mm, IPC Medium Density)
simulation model R_Resistor_Default (Model Description)
signal-integrity model Resistor Model
pins: 1, 2

## 0008052211
designator R?, comment 220 Ohm
RES, size 0805, 220 Ohm, 1/8 W, 1%; Manufacturer: ROHM Semiconductor; Manufacturer Part Number: SFR10EZPF2200; Rated Power: 1/8 W; Tolerance: +/-1%; Resistance: 220 Ohm; Supplier 1 URL: https://www.mouser.vn/ProductDetail/ROHM-Semiconductor/SFR10EZPF2200?qs=Y0Uzf4wQF3kqA8mD%252BXm5fA%3D%3D; Supplier 2 URL: https://www.digikey.com/en/products/detail/yageo/RC0805FR-13220RL/14008293; Supplier 3 URL: https://www.thegioiic.com/dien-tro-220-ohm-0805-1-; Value: 220 Ohm; Packaging: Tape and Reel; Supplier 1: Mouser; Supplier 1 Part Number: 755-SFR10EZPF2200; Supplier 2: Digi-Key; Supplier 2 Part Number: 13-RC0805FR-13220RLTR-ND - Tape & Reel (TR); Supplier 3: thegioiic; Supplier 3 Part Number: OEM; ComponentLink1Description: Datasheet; ComponentLink1URL: https://www.mouser.vn/datasheet/2/348/sfr_e-3009639.pdf; Mount: SMD/SMT; Operating Temperature Max: + 85 C; Operating Temperature Min: - 40 C; Package / Case: 0805; LCSC Part #: N/A
footprint RES_0805 (Chip Resistor, 2-Leads, Body 2.05x1.25mm, IPC Medium Density)
simulation model R_Resistor_Default (Model Description)
signal-integrity model Resistor Model
pins: 1, 2

## 0008052215
designator R?, comment 220 Ohm
RES, size 0805, 220 Ohm, 1/8 W, 5%; Manufacturer: Panasonic; Manufacturer Part Number: ERJ-U06J221V; Rated Power: 1/8 W; Tolerance: +/-5%; Resistance: 220 Ohm; Supplier 1 URL: https://www.mouser.vn/ProductDetail/ROHM-Semiconductor/SFR10EZPF2200?qs=Y0Uzf4wQF3kqA8mD%252BXm5fA%3D%3D; Supplier 2 URL: https://www.digikey.com/en/products/detail/panasonic-electronic-components/ERJ-6GEYJ221V/89706; Supplier 3 URL: https://www.thegioiic.com/dien-tro-220-ohm-0805-5; Value: 220 Ohm; Packaging: Tape and Reel; Supplier 1: Mouser; Supplier 1 Part Number: 667-ERJ-U06J221V; Supplier 2: Digi-Key; Supplier 2 Part Number: P220ATR-ND - Tape & Reel (TR); Supplier 3: thegioiic; Supplier 3 Part Number: OEM; ComponentLink1Description: Datasheet; ComponentLink1URL: https://www.mouser.vn/datasheet/2/348/sfr_e-3009639.pdf; Mount: SMD/SMT; Operating Temperature Max: + 85 C; Operating Temperature Min: - 40 C; Package / Case: 0805; LCSC Part #: N/A
footprint RES_0805 (Chip Resistor, 2-Leads, Body 2.05x1.25mm, IPC Medium Density)
simulation model R_Resistor_Default (Model Description)
signal-integrity model Resistor Model
pins: 1, 2

## 0008052231
designator R?, comment 22 kOhm
RES, size 0805, 22 kOhm, 1/8 W, 1%; Manufacturer: Vishay / Dale; Manufacturer Part Number: CRCW080522K0FKEA; Rated Power: 1/8 W; Tolerance: +/-1%; Resistance: 22 kOhm; Supplier 1 URL: https://www.mouser.vn/ProductDetail/Vishay-Dale/CRCW080522K0FKEA?qs=fIsz7OpyEY835T0D7WGkRw%3D%3D; Supplier 2 URL: https://www.digikey.com/en/products/detail/yageo/RC0805FR-1322KL/14008208; Supplier 3 URL: https://www.thegioiic.com/dien-tro-22-kohm-0805-1; Value: 22 kOhm; Packaging: Tape and Reel; Supplier 1: Mouser; Supplier 1 Part Number: 71-CRCW0805-22K-E3; Supplier 2: Digi-Key; Supplier 2 Part Number: 13-RC0805FR-1322KLTR-ND - Tape & Reel (TR); Supplier 3: thegioiic; Supplier 3 Part Number: OEM; ComponentLink1Description: Datasheet; ComponentLink1URL: https://www.vishay.com/doc?20035; Mount: SMD/SMT; Operating Temperature Max: + 85 C; Operating Temperature Min: - 40 C; Package / Case: 0805; LCSC Part #: N/A
footprint RES_0805 (Chip Resistor, 2-Leads, Body 2.05x1.25mm, IPC Medium Density)
simulation model R_Resistor_Default (Model Description)
signal-integrity model Resistor Model
pins: 1, 2

## 0008052235
designator R?, comment 22 kOhm
RES, size 0805, 22 kOhm, 1/8 W, 5%; Manufacturer: Vishay / Dale; Manufacturer Part Number: CRCW080522K0FKEA; Rated Power: 1/8 W; Tolerance: +/-5%; Resistance: 22 kOhm; Supplier 1 URL: https://www.mouser.vn/ProductDetail/Vishay-Dale/CRCW080522K0FKEA?qs=fIsz7OpyEY835T0D7WGkRw%3D%3D; Supplier 2 URL: https://www.digikey.com/en/products/detail/yageo/RC0805FR-1322KL/14008208; Supplier 3 URL: https://www.thegioiic.com/dien-tro-22-kohm-0805-1; Value: 22 kOhm; Packaging: Tape and Reel; Supplier 1: Mouser; Supplier 1 Part Number: 71-CRCW0805-22K-E3; Supplier 2: Digi-Key; Supplier 2 Part Number: 13-RC0805FR-1322KLTR-ND - Tape & Reel (TR); Supplier 3: thegioiic; Supplier 3 Part Number: OEM; ComponentLink1Description: Datasheet; ComponentLink1URL: https://www.vishay.com/doc?20035; Mount: SMD/SMT; Operating Temperature Max: + 85 C; Operating Temperature Min: - 40 C; Package / Case: 0805; LCSC Part #: N/A
footprint RES_0805 (Chip Resistor, 2-Leads, Body 2.05x1.25mm, IPC Medium Density)
simulation model R_Resistor_Default (Model Description)
signal-integrity model Resistor Model
pins: 1, 2

## 0008052261
designator R?, comment 22 MOhm
RES, size 0805, 22 MOhm, 1/8 W, 1%; Manufacturer: SEI Stackpole; Manufacturer Part Number: RMCF0805FT22M0; Rated Power: 1/8 W; Tolerance: +/-1%; Resistance: 22 MOhm; Supplier 1 URL: https://www.mouser.vn/ProductDetail/SEI-Stackpole/RMCF0805FT22M0?qs=MyNHzdoqoQLIOin2poKxZA%3D%3D; Supplier 2 URL: https://www.digikey.com/en/products/detail/stackpole-electronics-inc/RMCF0805FT22M0/6053747; Supplier 3 URL: N/A; Value: 22 MOhm; Packaging: Tape and Reel; Supplier 1: Mouser; Supplier 1 Part Number: 708-RMCF0805FT22M0; Supplier 2: Digi-Key; Supplier 2 Part Number: RMCF0805FT22M0TR-ND - Tape & Reel (TR); Supplier 3: thegioiic; Supplier 3 Part Number: OEM; ComponentLink1Description: Datasheet; ComponentLink1URL: https://www.mouser.vn/datasheet/2/385/SEI_RMCF_RMCP-3077565.pdf; Mount: SMD/SMT; Operating Temperature Max: + 85 C; Operating Temperature Min: - 40 C; Package / Case: 0805; LCSC Part #: N/A
footprint RES_0805 (Chip Resistor, 2-Leads, Body 2.05x1.25mm, IPC Medium Density)
simulation model R_Resistor_Default (Model Description)
signal-integrity model Resistor Model
pins: 1, 2

## 0008052265
designator R?, comment 22 MOhm
RES, size 0805, 22 MOhm, 1/8 W, 5%; Manufacturer: SEI Stackpole; Manufacturer Part Number: RMCF0805FT22M0; Rated Power: 1/8 W; Tolerance: +/-5%; Resistance: 22 MOhm; Supplier 1 URL: https://www.mouser.vn/ProductDetail/Vishay-Dale/CRCW080522M0JPEAHR?qs=fIsz7OpyEY%2FBgljFbesWMw%3D%3D; Supplier 2 URL: https://www.digikey.com/en/products/detail/vishay-dale/CRCW080522M0JPEAHR/5074441; Supplier 3 URL: N/A; Value: 22 MOhm; Packaging: Tape and Reel; Supplier 1: Mouser; Supplier 1 Part Number: 71-CRCW0805226JT; Supplier 2: Digi-Key; Supplier 2 Part Number: 541-CRCW080522M0JPEAHRTR-ND - Tape & Reel (TR); Supplier 3: thegioiic; Supplier 3 Part Number: OEM; ComponentLink1Description: Datasheet; ComponentLink1URL: https://www.vishay.com/doc?20022; Mount: SMD/SMT; Operating Temperature Max: + 85 C; Operating Temperature Min: - 40 C; Package / Case: 0805; LCSC Part #: N/A
footprint RES_0805 (Chip Resistor, 2-Leads, Body 2.05x1.25mm, IPC Medium Density)
simulation model R_Resistor_Default (Model Description)
signal-integrity model Resistor Model
pins: 1, 2

## 0008052341
designator R?, comment 230 kOhm
RES, size 0805, 230 kOhm, 1/8 W, 1%; Manufacturer: Royalohm; Manufacturer Part Number: 0805W8F2303T5E; Rated Power: 1/8 W; Tolerance: +/-1%; Resistance: 230 kOhm; Supplier 1 URL: https://www.mouser.vn/ProductDetail/Royalohm/0805W8F2303T5E?qs=e8oIoAS2J1TfhjSl20ty9Q%3D%3D; Supplier 2 URL: N/A; Supplier 3 URL: N/A; Value: 230 kOhm; Packaging: Tape and Reel; Supplier 1: Mouser; Supplier 1 Part Number: 303-0805W8F2303T5E; Supplier 2: Digi-Key; Supplier 2 Part Number: N/A; Supplier 3: thegioiic; Supplier 3 Part Number: OEM; ComponentLink1Description: Datasheet; ComponentLink1URL: https://www.mouser.vn/datasheet/2/1365/1-3044649.pdf; Mount: SMD/SMT; Operating Temperature Max: + 85 C; Operating Temperature Min: - 40 C; Package / Case: 0805; LCSC Part #: N/A
footprint RES_0805 (Chip Resistor, 2-Leads, Body 2.05x1.25mm, IPC Medium Density)
simulation model R_Resistor_Default (Model Description)
signal-integrity model Resistor Model
pins: 1, 2